# Altium schematic symbol library SAM-M10Q-00B.SchLib: 1 symbol
Pins are listed as number, name and electrical type; pins without a type are passive.

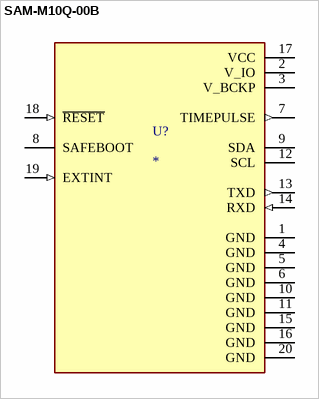
[diagram p0: symbol SAM-M10Q-00B]

## SAM-M10Q-00B
designator U?
- RF Receiver Galileo, GLONASS, GPS 1.575GHz, 1.602GHz -165dBm 400kbps On-Board, Patch Module; MF: u-blox; MP: SAM-M10Q-00B; SnapEDA_Link: https://www.snapeda.com/parts/SAM-M10Q-00B/u-blox/view-part/?ref=snap; Package: None; Value: *; Check_prices: https://www.snapeda.com/parts/SAM-M10Q-00B/u-blox/view-part/?ref=eda
footprint XCVR_SAM-M10Q-00B
pins: 1 GND (power), 2 V_IO (power), 3 V_BCKP (power), 4 GND (power), 5 GND (power), 6 GND (power), 7 TIMEPULSE (out), 8 SAFEBOOT, 9 SDA, 10 GND (power), 11 GND (power), 12 SCL, 13 TXD (out), 14 RXD (in), 15 GND (power), 16 GND (power), 17 VCC (power), 18 ~{RESET} (in), 19 EXTINT (in), 20 GND (power)